# Altium footprint library Capacitor Tantalum Radial Rectangle.PcbLib: 15 footprints
Each footprint in its own frame and in the unit in brackets; x right, y up, seen from the top. Pads: shape width x height; smd on the part's side, far side on the other; paste and mask are expansions set on the pad; w line width, h text height; cw(c..) or ccw(c..) is an arc to the next point about the centre after c.
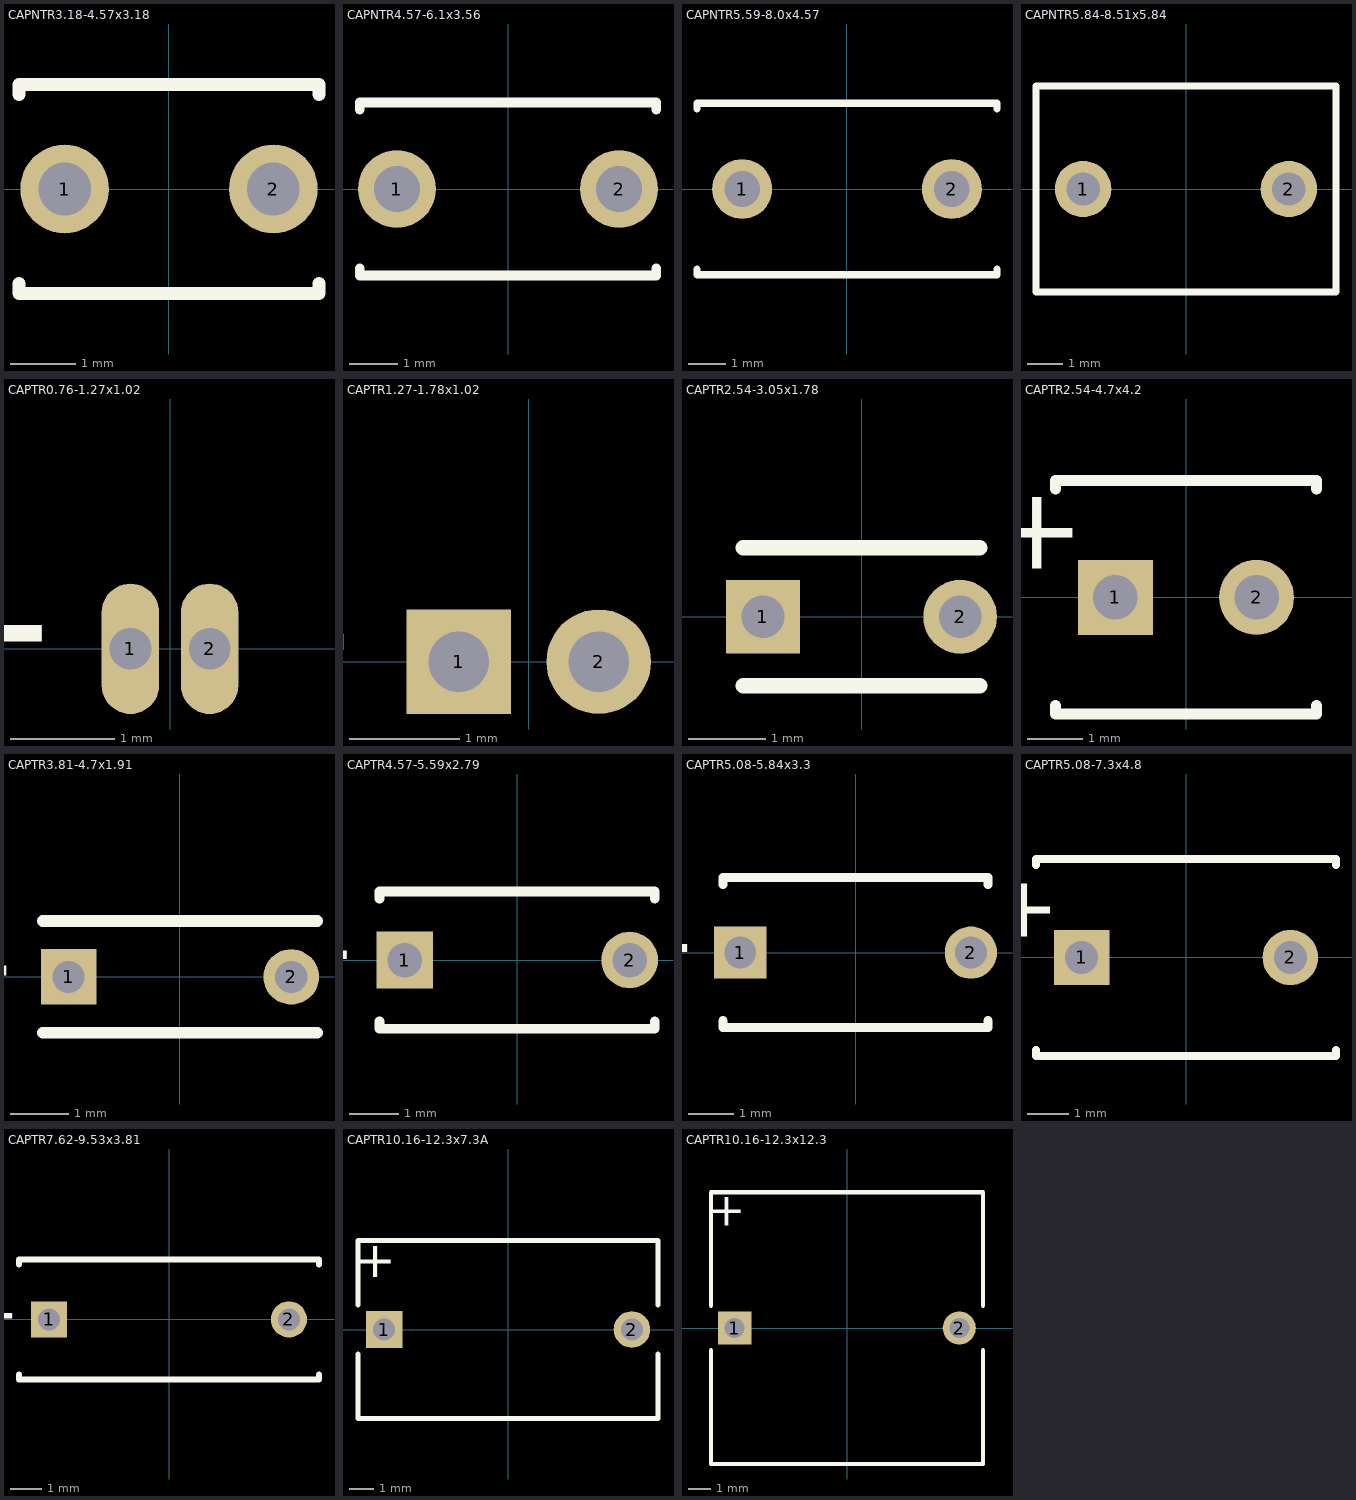
[diagram p0: the footprints below, top view; thin cyan lines are the x and y axes]

## CAPNTR3.18-4.57x3.18 [mm] "Capacitor, Radial, Tantalum, Non-Polarised; Body 4.57 x 3.18 x 5.59 mm (WxTxH max); Pin Spacing 3.18 mm (typ)"
height 5.59
pads (2):
  round 1.35 hole 0.8: 1(-1.59,0) 2(1.59,0)
Top Overlay:
  lines w0.2: -2.285,-1.44 -2.285,-1.59 2.285,-1.59 2.285,-1.44 ; -2.285,1.44 -2.285,1.59 2.285,1.59 2.285,1.44

## CAPNTR4.57-6.1x3.56 [mm] "Capacitor, Radial, Tantalum, Non-Polarised; Body 6.10 x 3.56 x 7.11 mm (WxTxH max); Pin Spacing 4.57 mm (typ)"
height 7.11
pads (2):
  round 1.6 hole 0.95: 1(-2.285,0) 2(2.285,0)
Top Overlay:
  lines w0.2: -3.05,-1.63 -3.05,-1.78 3.05,-1.78 3.05,-1.63 ; -3.05,1.63 -3.05,1.78 3.05,1.78 3.05,1.63

## CAPNTR5.59-8.0x4.57 [mm] "Capacitor, Radial, Tantalum, Non-Polarised; Body 8.00 x 4.57 x 9.40 mm (WxTxH max); Pin Spacing 5.59 mm (typ)"
height 9.4
pads (2):
  round 1.6 hole 0.95: 1(-2.795,0) 2(2.795,0)
Top Overlay:
  lines w0.2: -4,-2.135 -4,-2.285 4,-2.285 4,-2.135 ; -4,2.135 -4,2.285 4,2.285 4,2.135

## CAPNTR5.84-8.51x5.84 [mm] "Capacitor, Radial, Tantalum, Non-Polarised; Body 8.51 x 5.84 x 9.91 mm (WxTxH max); Pin Spacing 5.84 mm (typ)"
height 9.91
pads (2):
  round 1.6 hole 0.95: 1(-2.92,0) 2(2.92,0)
Top Overlay:
  lines w0.2: -4.255,-2.92 -4.255,2.92 4.255,2.92 4.255,-2.92 -4.255,-2.92

## CAPTR0.76-1.27x1.02 [mm] "Capacitor, Radial, Tantalum; Body 1.27 x 1.02 x 2.54 mm (WxTxH max); Pin Spacing 0.76 mm (typ)"
height 2.54
pads (2):
  oval 0.55x1.25 hole 0.4: 1(-0.38,0) 2(0.38,0)
Top Overlay:
  text "+" at -1.025,0.75 h1.5

## CAPTR1.27-1.78x1.02 [mm] "Capacitor, Radial, Tantalum; Body 1.78 x 1.02 x 3.18 mm (WxTxH max); Pin Spacing 1.27 mm (typ)"
height 3.18
pads (2):
  rect 0.95x0.95 hole 0.55: 1(-0.635,0)
  round 0.95 hole 0.55: 2(0.635,0)
Top Overlay:
  text "+" at -1.488,0.75 h1.5

## CAPTR2.54-3.05x1.78 [mm] "Capacitor, Radial, Tantalum; Body 3.05 x 1.78 x 4.19 mm (WxTxH max); Pin Spacing 2.54 mm (typ)"
height 4.19
pads (2):
  rect 0.95x0.95 hole 0.55: 1(-1.27,0)
  round 0.95 hole 0.55: 2(1.27,0)
Top Overlay:
  lines w0.2: -1.525,-0.89 1.525,-0.89 ; -1.525,0.89 1.525,0.89
  text "+" at -2.12,0.75 h1.5

## CAPTR2.54-4.7x4.2 [mm] "Capacitor, Radial, Tantalum; Body 4.7 x 4.2 x 7.3 mm (WxTxH max); Pin Spacing 2.54 mm (typ)"
height 7.3
pads (2):
  rect 1.35x1.35 hole 0.8: 1(-1.27,0)
  round 1.35 hole 0.8: 2(1.27,0)
Top Overlay:
  lines w0.2: -2.35,-1.95 -2.35,-2.1 2.35,-2.1 2.35,-1.95 ; -2.35,1.95 -2.35,2.1 2.35,2.1 2.35,1.95
  text "+" at -1.82,1.8 h1.5

## CAPTR3.81-4.7x1.91 [mm] "Capacitor, Radial, Tantalum; Body 4.70 x 1.91 x 5.72 mm (WxTxH max); Pin Spacing 3.81 mm (typ)"
height 5.72
pads (2):
  rect 0.95x0.95 hole 0.55: 1(-1.905,0)
  round 0.95 hole 0.55: 2(1.905,0)
Top Overlay:
  lines w0.2: -2.35,-0.955 2.35,-0.955 ; -2.35,0.955 2.35,0.955
  text "+" at -2.755,0.75 h1.5

## CAPTR4.57-5.59x2.79 [mm] "Capacitor, Radial, Tantalum; Body 5.59 x 2.79 x 7.37 mm (WxTxH max); Pin Spacing 4.57 mm (typ)"
height 7.37
pads (2):
  rect 1.15x1.15 hole 0.7: 1(-2.285,0)
  round 1.15 hole 0.7: 2(2.285,0)
Top Overlay:
  lines w0.2: -2.795,-1.245 -2.795,-1.395 2.795,-1.395 2.795,-1.245 ; -2.795,1.245 -2.795,1.395 2.795,1.395 2.795,1.245
  text "+" at -3.235,0.75 h1.5

## CAPTR5.08-5.84x3.3 [mm] "Capacitor, Radial, Tantalum; Body 5.84 x 3.30 x 7.87 mm (WxTxH max); Pin Spacing 5.08 mm (typ)"
height 7.87
pads (2):
  rect 1.15x1.15 hole 0.7: 1(-2.54,0)
  round 1.15 hole 0.7: 2(2.54,0)
Top Overlay:
  lines w0.2: -2.92,-1.5 -2.92,-1.65 2.92,-1.65 2.92,-1.5 ; -2.92,1.5 -2.92,1.65 2.92,1.65 2.92,1.5
  text "+" at -3.49,0.75 h1.5

## CAPTR5.08-7.3x4.8 [mm] "Capacitor, Radial, Tantalum; Body 7.3 x 4.8 x 10.5 mm (WxTxH max); Pin Spacing 5.08 mm (typ)"
height 10.5
pads (2):
  rect 1.35x1.35 hole 0.8: 1(-2.54,0)
  round 1.35 hole 0.8: 2(2.54,0)
Top Overlay:
  lines w0.2: -3.65,-2.25 -3.65,-2.4 3.65,-2.4 3.65,-2.25 ; -3.65,2.25 -3.65,2.4 3.65,2.4 3.65,2.25
  text "+" at -3.09,1.8 h1.5

## CAPTR7.62-9.53x3.81 [mm] "Capacitor, Radial, Tantalum; Body 9.53 x 3.81 x 12.07 mm (WxTxH max); Pin Spacing 7.62 mm (typ)"
height 12.07
pads (2):
  rect 1.15x1.15 hole 0.7: 1(-3.81,0)
  round 1.15 hole 0.7: 2(3.81,0)
Top Overlay:
  lines w0.2: -4.765,-1.755 -4.765,-1.905 4.765,-1.905 4.765,-1.755 ; -4.765,1.755 -4.765,1.905 4.765,1.905 4.765,1.755
  text "+" at -4.76,0.75 h1.5

## CAPTR10.16-12.3x7.3A [mm] "Capacitor, Radial, Tantalum; Body 12.3 x 7.3 x 10.5 mm (WxTxH max); Pin Spacing 10.16 mm (typ)"
height 10.5
pads (2):
  rect 1.5x1.5 hole 0.9: 1(-5.08,0)
  round 1.5 hole 0.9: 2(5.08,0)
Top Overlay:
  lines w0.2: -6.15,-1 -6.15,-3.65 6.15,-3.65 6.15,-1 ; -6.15,1 -6.15,3.65 6.15,3.65 6.15,1
  text "+" at -4.58,3.422 h1.5

## CAPTR10.16-12.3x12.3 [mm] "Capacitor, Radial, Tantalum; Body 12.3 x 12.3 x 10.5 mm (WxTxH max); Pin Spacing 10.16 mm (typ)"
height 10.5
pads (2):
  rect 1.5x1.5 hole 0.9: 1(-5.08,0)
  round 1.5 hole 0.9: 2(5.08,0)
Top Overlay:
  lines w0.2: -6.15,-1 -6.15,-6.15 6.15,-6.15 6.15,-1 ; -6.15,1 -6.15,6.15 6.15,6.15 6.15,1
  text "+" at -4.58,5.92 h1.5